# Altium footprint library AMPHENOL THD.PcbLib: 20 footprints (part 2 of 2)
Each footprint in its own frame and in the unit in brackets; x right, y up, seen from the top. Pads: shape width x height; smd on the part's side, far side on the other; paste and mask are expansions set on the pad; w line width, h text height; cw(c..) or ccw(c..) is an arc to the next point about the centre after c.
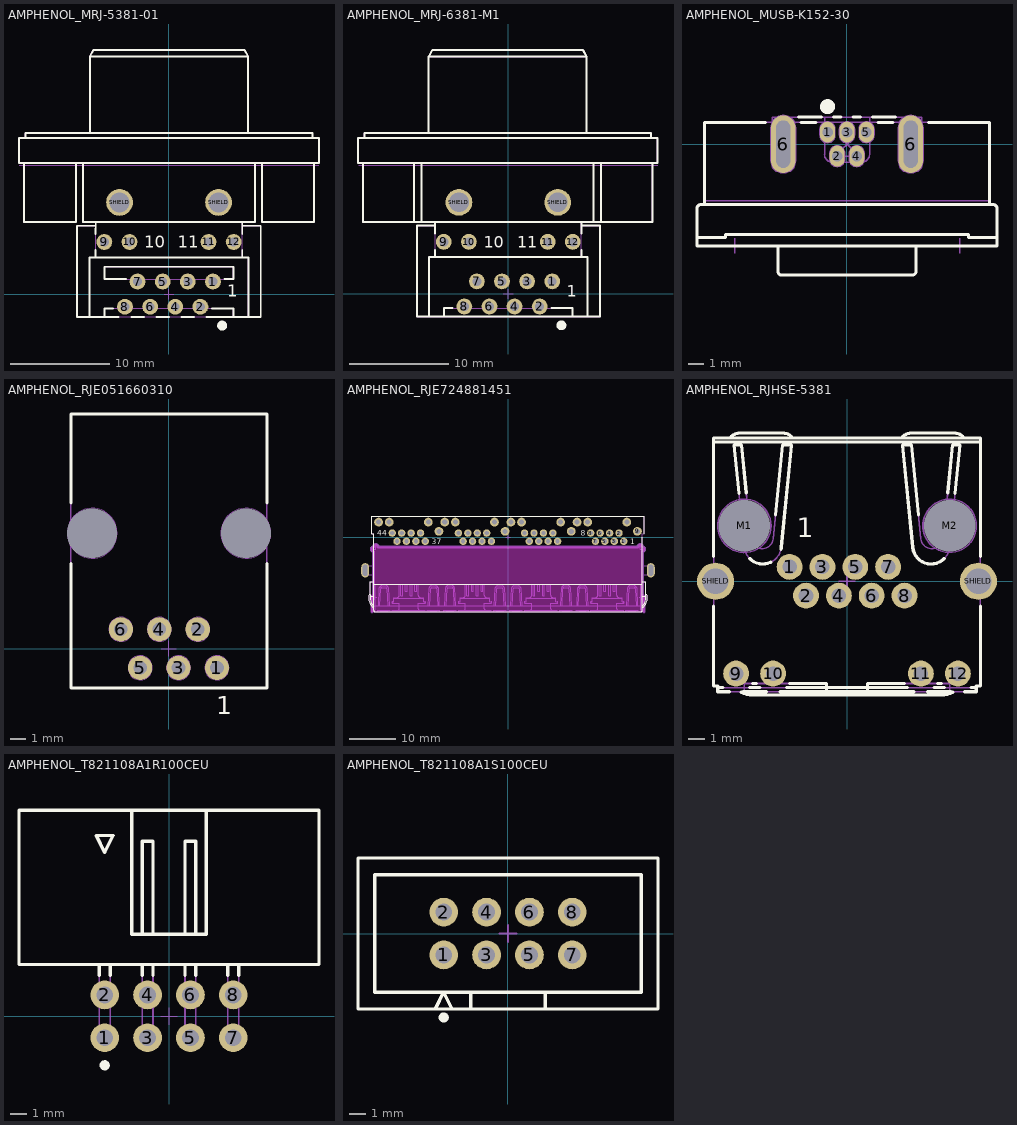
[diagram p1: the footprints below, top view; thin cyan lines are the x and y axes]

## AMPHENOL_MRJ-5381-01 [mm] "1 Port, 8 Positions, Dust Tight Waterproof IP67, Right Angle CAT5 RJ45 Modular Jack With Yellow And Green LEDs, Series MRJ"
height 18.25
pads (14):
  round 1.6 hole 0.9: 1(4.445,1.27) 2(3.175,-1.27) 3(1.905,1.27) 4(0.635,-1.27) 5(-0.635,1.27) 6(-1.905,-1.27) 7(-3.175,1.27) 8(-4.445,-1.27) 9(-6.525,5.27) 10(-3.985,5.27) 11(3.995,5.27) 12(6.535,5.27)
  round 2.7 hole 2: SHIELD(-4.995,9.27) SHIELD(5.005,9.27)
Top Overlay:
  circle w0.5: c5.375,-3.175 r0.25
  lines w0.2: -14.649,13.269 -14.649,7.269 -9.41,7.269 -9.41,13.269 ; -14.499,15.769 -14.499,16.269 14.501,16.269 14.501,15.769 ; -8.699,13.269 -8.699,7.269 8.701,7.269 8.701,13.269 ; -8.019,-2.281 -8.019,3.719 8.021,3.719 8.021,-2.281 ; -7.999,16.269 -7.999,24.019 ; -7.399,3.719 -7.398,4.447 ; -7.399,6.909 -9.269,6.909 -9.269,-2.286 -5.084,-2.286 ; -7.397,6.094 -7.396,7.269 ; -6.499,-2.281 -6.499,-1.431 -5.634,-1.431 ; -4.349,1.519 -6.499,1.519 -6.499,2.769 6.501,2.769 6.501,1.519 5.619,1.519 ; -3.806,-2.286 -2.544,-2.286 ; -1.266,-2.286 -0.004,-2.286 ; 1.274,-2.286 2.536,-2.286 ; 3.814,-2.286 9.271,-2.286 9.271,6.909 7.401,6.909 ; 4.364,-1.431 6.501,-1.431 6.501,-2.281 ; 7.401,3.719 7.401,4.44 ; 7.401,6.1 7.401,7.269 ; 8.001,16.269 8.001,24.019 ; 9.413,13.269 9.413,7.269 14.651,7.269 14.651,13.269 ; -7.999,24.019 -7.623,24.669 7.626,24.669 8.001,24.019 ; -7.999,24.019 8.001,24.019 ; -15.149,13.269 15.151,13.269 15.151,15.769 -15.149,15.769 -15.149,13.269
  text "11" at 0.9,4.675 h1.2
  text "10" at -2.475,4.675 h1.2
  text "1" at 5.9,-0.275 h1.2
Mechanical 8:
  lines w0.1: -15.149,13.02 0.005,13.02 15.155,13.02 ; -7.025,5.27 -6.525,5.27 ; -6.525,4.77 -6.525,5.27 ; -6.525,5.77 -6.525,5.27 ; -6.025,5.27 -6.525,5.27 ; -5.495,9.27 -4.995,9.27 ; -4.995,8.77 -4.995,9.27 ; -4.995,9.77 -4.995,9.27 ; -4.945,-1.27 -4.445,-1.27 ; -4.495,9.27 -4.995,9.27 ; -4.485,5.27 -3.985,5.27 ; -4.445,-1.77 -4.445,-1.27 ; -4.445,-0.77 -4.445,-1.27 ; -3.985,4.77 -3.985,5.27 ; -3.985,5.77 -3.985,5.27 ; -3.945,-1.27 -4.445,-1.27 ; -3.675,1.27 -3.175,1.27 ; -3.485,5.27 -3.985,5.27 ; -3.175,0.77 -3.175,1.27 ; -3.175,1.77 -3.175,1.27 ; -2.675,1.27 -3.175,1.27 ; -2.405,-1.27 -1.905,-1.27 ; -1.905,-1.77 -1.905,-1.27 ; -1.905,-0.77 -1.905,-1.27 ; -1.405,-1.27 -1.905,-1.27 ; -1.135,1.27 -0.635,1.27 ; -0.635,0.77 -0.635,1.27 ; -0.635,1.77 -0.635,1.27 ; -0.5,0 0,0 ; -0.135,1.27 -0.635,1.27 ; 0,-0.5 0,0 ; 0,0.5 0,0 ; 0.135,-1.27 0.635,-1.27 ; 0.5,0 0,0 ; 0.635,-1.77 0.635,-1.27 ; 0.635,-0.77 0.635,-1.27 ; 1.135,-1.27 0.635,-1.27 ; 1.405,1.27 1.905,1.27 ; 1.905,0.77 1.905,1.27 ; 1.905,1.77 1.905,1.27 ; 2.405,1.27 1.905,1.27 ; 2.675,-1.27 3.175,-1.27 ; 3.175,-1.77 3.175,-1.27 ; 3.175,-0.77 3.175,-1.27 ; 3.495,5.27 3.995,5.27 ; 3.675,-1.27 3.175,-1.27 ; 3.945,1.27 4.445,1.27 ; 3.995,4.77 3.995,5.27 ; 3.995,5.77 3.995,5.27 ; 4.445,0.77 4.445,1.27 ; 4.445,1.77 4.445,1.27 ; 4.495,5.27 3.995,5.27 ; 4.505,9.27 5.005,9.27 ; 4.945,1.27 4.445,1.27 ; 5.005,8.77 5.005,9.27 ; 5.005,9.77 5.005,9.27 ; 5.505,9.27 5.005,9.27 ; 6.035,5.27 6.535,5.27 ; 6.535,4.77 6.535,5.27 ; 6.535,5.77 6.535,5.27 ; 7.035,5.27 6.535,5.27
Mechanical 14:
  lines w0.1: -14.649,13.269 -14.649,7.269 -9.41,7.269 -9.41,13.269 ; -14.499,15.769 -14.499,16.269 14.501,16.269 14.501,15.769 ; -8.699,13.269 -8.699,7.269 8.701,7.269 8.701,13.269 ; -8.019,-2.281 -8.019,3.719 8.021,3.719 8.021,-2.281 ; -7.999,16.269 -7.999,24.019 ; -7.399,3.719 -7.396,7.269 ; -7.399,6.909 -9.269,6.909 -9.269,-2.286 9.271,-2.286 9.271,6.909 7.401,6.909 ; -6.499,-2.281 -6.499,-1.431 6.501,-1.431 6.501,-2.281 ; 7.401,3.719 7.401,7.269 ; 8.001,16.269 8.001,24.019 ; 9.413,13.269 9.413,7.269 14.651,7.269 14.651,13.269 ; -7.999,24.019 -7.623,24.669 7.626,24.669 8.001,24.019 ; -7.999,24.019 8.001,24.019 ; -15.149,13.269 15.151,13.269 15.151,15.769 -15.149,15.769 -15.149,13.269 ; -6.499,1.519 -6.499,2.769 6.501,2.769 6.501,1.519 -6.499,1.519
  text "11" at 0.9,4.675 h1.2
  text "10" at -2.475,4.675 h1.2
  text "1" at 5.9,-0.275 h1.2
3D body "AMPHENOL_MRJ-5381-01.stp": height 16.7, standoff -2.54, extent -15.148,-2.285 15.152,24.669

## AMPHENOL_MRJ-6381-M1 [mm] "1 Port, 8 Contacts, Dust Tight Waterproof IP67, Right Angle CAT5 Filtered RJ45 Modular Jack With Yellow And Green LEDs, Series MRJ"
height 18
pads (14):
  round 1.6 hole 0.9: 1(4.445,1.27) 2(3.175,-1.27) 3(1.905,1.27) 4(0.635,-1.27) 5(-0.635,1.27) 6(-1.905,-1.27) 7(-3.175,1.27) 8(-4.445,-1.27) 9(-6.525,5.27) 10(-3.985,5.27) 11(3.995,5.27) 12(6.535,5.27)
  round 2.7 hole 2: SHIELD(-4.995,9.27) SHIELD(5.005,9.27)
Top Overlay:
  circle w0.5: c5.375,-3.175 r0.25
  lines w0.2: -14.71,13.269 -14.71,7.269 14.59,7.269 14.59,13.269 ; -14.56,15.769 -14.56,16.269 14.44,16.269 14.44,15.769 ; -9.519,7.269 -9.519,13.269 ; -8.76,7.269 -8.76,13.269 ; -8.06,16.269 -8.06,24.019 ; -8.019,-2.286 -8.019,3.719 8.021,3.719 8.021,-2.286 ; -7.399,3.719 -7.399,4.447 ; -7.399,6.093 -7.399,7.269 ; -7.399,6.909 -9.253,6.909 -9.253,-2.286 9.287,-2.286 9.287,6.909 7.401,6.909 ; -6.499,-2.281 -6.499,-1.431 -5.634,-1.431 ; 4.364,-1.431 6.501,-1.431 6.501,-2.281 ; 7.401,3.719 7.401,4.44 ; 7.401,6.1 7.401,7.269 ; 7.94,16.269 7.94,24.019 ; 8.64,7.269 8.64,13.269 ; 9.398,7.269 9.398,13.269 ; -8.06,24.019 7.94,24.019 ; -8.06,24.019 -7.685,24.669 7.564,24.669 7.94,24.019 ; -15.21,13.269 -15.21,15.769 15.09,15.769 15.09,13.269 -15.21,13.269
  text "11" at 0.9,4.675 h1.2
  text "10" at -2.475,4.675 h1.2
  text "1" at 5.9,-0.275 h1.2
Mechanical 8:
  lines w0.1: -15.149,13.02 0.005,13.02 15.155,13.02 ; -7.025,5.27 -6.525,5.27 ; -6.525,4.77 -6.525,5.27 ; -6.525,5.77 -6.525,5.27 ; -6.025,5.27 -6.525,5.27 ; -5.5,9.27 -5,9.27 ; -5,8.77 -5,9.27 ; -5,9.77 -5,9.27 ; -4.945,-1.27 -4.445,-1.27 ; -4.5,9.27 -5,9.27 ; -4.485,5.27 -3.985,5.27 ; -4.445,-1.77 -4.445,-1.27 ; -4.445,-0.77 -4.445,-1.27 ; -3.985,4.77 -3.985,5.27 ; -3.985,5.77 -3.985,5.27 ; -3.945,-1.27 -4.445,-1.27 ; -3.675,1.27 -3.175,1.27 ; -3.485,5.27 -3.985,5.27 ; -3.175,0.77 -3.175,1.27 ; -3.175,1.77 -3.175,1.27 ; -2.675,1.27 -3.175,1.27 ; -2.405,-1.27 -1.905,-1.27 ; -1.905,-1.77 -1.905,-1.27 ; -1.905,-0.77 -1.905,-1.27 ; -1.405,-1.27 -1.905,-1.27 ; -1.135,1.27 -0.635,1.27 ; -0.635,0.77 -0.635,1.27 ; -0.635,1.77 -0.635,1.27 ; -0.5,0 0,0 ; -0.135,1.27 -0.635,1.27 ; 0,-0.5 0,0 ; 0,0.5 0,0 ; 0.135,-1.27 0.635,-1.27 ; 0.5,0 0,0 ; 0.635,-1.77 0.635,-1.27 ; 0.635,-0.77 0.635,-1.27 ; 1.135,-1.27 0.635,-1.27 ; 1.405,1.27 1.905,1.27 ; 1.905,0.77 1.905,1.27 ; 1.905,1.77 1.905,1.27 ; 2.405,1.27 1.905,1.27 ; 2.675,-1.27 3.175,-1.27 ; 3.175,-1.77 3.175,-1.27 ; 3.175,-0.77 3.175,-1.27 ; 3.495,5.27 3.995,5.27 ; 3.675,-1.27 3.175,-1.27 ; 3.945,1.27 4.445,1.27 ; 3.995,4.77 3.995,5.27 ; 3.995,5.77 3.995,5.27 ; 4.44,9.27 5,9.27 ; 4.445,0.77 4.445,1.27 ; 4.445,1.77 4.445,1.27 ; 4.495,5.27 3.995,5.27 ; 4.5,9.27 5,9.27 ; 4.945,1.27 4.445,1.27 ; 5,8.77 5,9.27 ; 5,9.77 5,9.27 ; 5.5,9.27 5,9.27 ; 6.035,5.27 6.535,5.27 ; 6.535,4.77 6.535,5.27 ; 6.535,5.77 6.535,5.27 ; 7.035,5.27 6.535,5.27
Mechanical 14:
  lines w0.1: -14.71,13.269 -14.71,7.269 14.59,7.269 14.59,13.269 ; -14.56,15.769 -14.56,16.269 14.44,16.269 14.44,15.769 ; -9.519,7.269 -9.519,13.269 ; -8.76,7.269 -8.76,13.269 ; -8.06,16.269 -8.06,24.019 ; -8.019,-2.286 -8.019,3.719 8.021,3.719 8.021,-2.286 ; -7.399,3.719 -7.399,7.269 ; -7.399,6.909 -9.253,6.909 -9.253,-2.286 9.287,-2.286 9.287,6.909 7.401,6.909 ; -6.499,-2.281 -6.499,-1.431 6.501,-1.431 6.501,-2.281 ; 7.401,3.719 7.401,7.269 ; 7.94,16.269 7.94,24.019 ; 8.64,7.269 8.64,13.269 ; 9.398,7.269 9.398,13.269 ; -8.06,24.019 7.94,24.019 ; -8.06,24.019 -7.685,24.669 7.564,24.669 7.94,24.019 ; -15.21,13.269 -15.21,15.769 15.09,15.769 15.09,13.269 -15.21,13.269
  text "11" at 0.9,4.675 h1.2
  text "10" at -2.475,4.675 h1.2
  text "1" at 5.9,-0.275 h1.2
3D body "AMPHENOL_MRJ-6381-M1.stp": height 17.06, standoff -2.54, extent -15.21,-2.285 15.09,24.669

## AMPHENOL_MUSB-K152-30 [mm] "1 Port, 8 Positions, Dust Tight Waterproof IP67, Right Angle CAT5 RJ45 Modular Jack With Yellow And Green LEDs, Series MRJ"
height 8.5
pads (7):
  oval 1x1.4 hole 0.7: 1(-1.3,0.8) 2(-0.65,-0.8) 3(0,0.8) 4(0.65,-0.8) 5(1.3,0.8)
  oval 1.65x3.85 hole 0.95 slot 3.15 at 90 deg: 6(-4.25,0) 6(4.25,0)
Top Overlay:
  circle w0.5: c-1.3,2.5 r0.25
  lines w0.2: -10,-6.23 -8.1,-6.23 -8.1,-6.03 8.1,-6.03 8.1,-6.23 10,-6.23 ; -9.499,-4.03 -9.499,1.45 -5.424,1.45 ; -4.6,-6.79 -4.6,-8.48 ccw(c-4.35,-8.48) -4.35,-8.73 4.35,-8.73 ccw(c4.35,-8.48) 4.6,-8.48 4.6,-6.79 ; -3.245,1.8 -1.712,1.8 ; -3.076,1.45 -2.079,1.45 ; -0.888,1.8 -0.412,1.8 ; 0.412,1.8 0.888,1.8 ; 1.712,1.8 3.245,1.8 ; 2.079,1.45 3.076,1.45 ; 5.424,1.45 9.5,1.45 9.499,-4.03 ; -10,-6.79 -10,-4.28 cw(c-9.75,-4.28) -9.75,-4.03 9.75,-4.03 cw(c9.75,-4.28) 10,-4.28 10,-6.79 -10,-6.79
Mechanical 8:
  circle w0.1: c-1.3,0.8 r0.35
  circle w0.1: c0,0.8 r0.35
  circle w0.1: c1.3,0.8 r0.35
  circle w0.1: c-0.65,-0.8 r0.35
  circle w0.1: c0.65,-0.8 r0.35
  lines w0.1: -9.499,-3.78 0,-3.78 9.5,-3.781 ; -7.5,-7.29 -7.5,-6.79 -7.5,-6.29 ; -4.75,-1.1 -4.25,-1.1 ; -4.75,0 -4.25,0 ; -4.75,1.1 -4.25,1.1 ; -4.25,-1.575 -4.25,1.575 ; -4.25,-0.6 -4.25,-1.1 ; -4.25,-0.5 -4.25,0 ; -4.25,0.5 -4.25,0 ; -4.25,0.6 -4.25,1.1 ; -3.75,-1.1 -4.25,-1.1 ; -3.75,0 -4.25,0 ; -3.75,1.1 -4.25,1.1 ; -1.8,0.8 -1.3,0.8 ; -1.3,0.3 -1.3,0.8 ; -1.3,1.3 -1.3,0.8 ; -1.15,-0.8 -0.65,-0.8 ; -0.8,0.8 -1.3,0.8 ; -0.65,-1.3 -0.65,-0.8 ; -0.65,-0.3 -0.65,-0.8 ; -0.5,0.8 0,0.8 ; -0.354,-0.354 0,0 ; -0.354,0.354 0,0 ; -0.15,-0.8 -0.65,-0.8 ; 0,0.3 0,0.8 ; 0,1.3 0,0.8 ; 0.15,-0.8 0.65,-0.8 ; 0.354,-0.354 0,0 ; 0.354,0.354 0,0 ; 0.5,0.8 0,0.8 ; 0.65,-1.3 0.65,-0.8 ; 0.65,-0.3 0.65,-0.8 ; 0.8,0.8 1.3,0.8 ; 1.15,-0.8 0.65,-0.8 ; 1.3,0.3 1.3,0.8 ; 1.3,1.3 1.3,0.8 ; 1.8,0.8 1.3,0.8 ; 3.75,-1.1 4.25,-1.1 ; 3.75,0 4.25,0 ; 3.75,1.1 4.25,1.1 ; 4.25,-1.575 4.25,1.575 ; 4.25,-0.6 4.25,-1.1 ; 4.25,-0.5 4.25,0 ; 4.25,0.5 4.25,0 ; 4.25,0.6 4.25,1.1 ; 4.75,-1.1 4.25,-1.1 ; 4.75,0 4.25,0 ; 4.75,1.1 4.25,1.1 ; 7.5,-7.29 7.5,-6.79 7.5,-6.29 ; -0.65,-0.8 0.65,-0.8 ; -5.075,-1.1 ccw(c-4.25,-1.1) -3.425,-1.1 -3.425,1.1 ccw(c-4.25,1.1) -5.075,1.1 -5.075,-1.1 ; -4.725,-1.1 ccw(c-4.25,-1.1) -3.775,-1.1 -3.775,1.1 ccw(c-4.25,1.1) -4.725,1.1 -4.725,-1.1 ; -1.8,0.6 ccw(c-1.3,0.6) -0.8,0.6 -0.8,1 ccw(c-1.3,1) -1.8,1 -1.8,0.6 ; -1.15,-1 ccw(c-0.65,-1) -0.15,-1 -0.15,-0.6 ccw(c-0.65,-0.6) -1.15,-0.6 -1.15,-1 ; -0.5,0.6 ccw(c0,0.6) 0.5,0.6 0.5,1 ccw(c0,1) -0.5,1 -0.5,0.6 ; 0.15,-1 ccw(c0.65,-1) 1.15,-1 1.15,-0.6 ccw(c0.65,-0.6) 0.15,-0.6 0.15,-1 ; 0.8,0.6 ccw(c1.3,0.6) 1.8,0.6 1.8,1 ccw(c1.3,1) 0.8,1 0.8,0.6 ; 3.425,-1.1 ccw(c4.25,-1.1) 5.075,-1.1 5.075,1.1 ccw(c4.25,1.1) 3.425,1.1 3.425,-1.1 ; 3.775,-1.1 ccw(c4.25,-1.1) 4.725,-1.1 4.725,1.1 ccw(c4.25,1.1) 3.775,1.1 3.775,-1.1
Mechanical 14:
  lines w0.1: -10,-6.23 -8.1,-6.23 -8.1,-6.03 8.1,-6.03 8.1,-6.23 10,-6.23 ; -9.499,-4.03 -9.499,1.45 9.5,1.45 9.499,-4.03 ; -4.975,1.45 -4.975,1.8 4.975,1.8 4.975,1.45 ; -4.6,-6.79 -4.6,-8.48 ccw(c-4.35,-8.48) -4.35,-8.73 4.35,-8.73 ccw(c4.35,-8.48) 4.6,-8.48 4.6,-6.79 ; -1.5,1.8 -1.5,-0.7 ccw(c-1,-0.7) -1,-1.2 1,-1.2 ccw(c1,-0.7) 1.5,-0.7 1.5,1.8 ; -10,-6.79 -10,-4.28 cw(c-9.75,-4.28) -9.75,-4.03 9.75,-4.03 cw(c9.75,-4.28) 10,-4.28 10,-6.79 -10,-6.79
3D body "AMPHENOL_MUSB-K152-30.stp": height 8.5, standoff -2.75, extent -10,-8.73 10,1.8

## AMPHENOL_RJE051660310 [mm] "1 Port RJ12 Connector, 6P6C,  Right Angle With Ears"
height 11.5
pads (8):
  round 1.6 hole 0.9: 1(3.175,-1.27) 2(1.905,1.27) 3(0.635,-1.27) 4(-0.635,1.27) 5(-1.905,-1.27) 6(-3.175,1.27)
  round 0.5 hole 3.3 unplated mask+1.4: M1(-5.075,7.62) M2(5.085,7.62)
Top Overlay:
  lines w0.2: -6.48,5.62 -6.48,-2.6 6.48,-2.6 6.48,5.62 ; -6.48,9.62 -6.48,15.5 6.48,15.5 6.48,9.62
  text "1" at 3.12,-4.325 h1.2
Mechanical 8:
  circle w0.05: c5.085,7.62 r1.65
  circle w0.05: c-5.075,7.62 r1.65
  circle w0.05: c-3.175,1.27 r0.45
  circle w0.05: c-3.175,1.27 r0.8
  circle w0.05: c-0.635,1.27 r0.45
  circle w0.05: c-0.635,1.27 r0.8
  circle w0.05: c1.905,1.27 r0.45
  circle w0.05: c1.905,1.27 r0.8
  circle w0.05: c-1.905,-1.27 r0.45
  circle w0.05: c-1.905,-1.27 r0.8
  circle w0.05: c0.635,-1.27 r0.45
  circle w0.05: c0.635,-1.27 r0.8
  circle w0.05: c3.175,-1.27 r0.45
  circle w0.05: c3.175,-1.27 r0.8
  lines w0.05: -5.575,7.62 -5.075,7.62 ; -5.075,7.12 -5.075,7.62 ; -5.075,8.12 -5.075,7.62 ; -4.575,7.62 -5.075,7.62 ; -3.675,1.27 -3.175,1.27 ; -3.175,0.77 -3.175,1.27 ; -3.175,1.77 -3.175,1.27 ; -2.675,1.27 -3.175,1.27 ; -2.405,-1.27 -1.905,-1.27 ; -1.905,-1.77 -1.905,-1.27 ; -1.905,-0.77 -1.905,-1.27 ; -1.405,-1.27 -1.905,-1.27 ; -1.135,1.27 -0.635,1.27 ; -0.635,0.77 -0.635,1.27 ; -0.635,1.77 -0.635,1.27 ; -0.5,0 0,0 ; -0.135,1.27 -0.635,1.27 ; 0,-0.5 0,0 ; 0,0.5 0,0 ; 0.135,-1.27 0.635,-1.27 ; 0.5,0 0,0 ; 0.635,-1.77 0.635,-1.27 ; 0.635,-0.77 0.635,-1.27 ; 1.135,-1.27 0.635,-1.27 ; 1.405,1.27 1.905,1.27 ; 1.905,0.77 1.905,1.27 ; 1.905,1.77 1.905,1.27 ; 2.405,1.27 1.905,1.27 ; 2.675,-1.27 3.175,-1.27 ; 3.175,-1.77 3.175,-1.27 ; 3.175,-0.77 3.175,-1.27 ; 3.675,-1.27 3.175,-1.27 ; 4.585,7.62 5.085,7.62 ; 5.085,7.12 5.085,7.62 ; 5.085,8.12 5.085,7.62 ; 5.585,7.62 5.085,7.62
Mechanical 14:
  lines w0.1: -6.48,-2.6 6.48,-2.6 6.48,15.5 -6.48,15.5 -6.48,-2.6
  text "1" at 3.12,-4.325 h1.2
3D body "AMPHENOL_RJE051660310.stp": height 11.5, standoff -3.2, extent -6.48,-2.6 6.48,15.5

## AMPHENOL_RJE724881451 [mm] "4 Port, 8 Positions, With Shield And Green Leds"
height 12.92
pads (50):
  round 1.6 hole 0.9: 1(25.02,-0.89) 2(24,0.89) 3(22.98,-0.89) 4(21.96,0.89) 5(20.94,-0.89) 6(19.92,0.89) 7(18.9,-0.89) 8(17.88,0.89) 13(10.72,-0.89) 14(9.7,0.89) 15(8.68,-0.89) 16(7.66,0.89) 17(6.64,-0.89) 18(5.62,0.89) 19(4.6,-0.89) 20(3.58,0.89) 25(-3.58,-0.89) 26(-4.6,0.89) 27(-5.62,-0.89) 28(-6.64,0.89) 29(-7.66,-0.89) 30(-8.68,0.89) 31(-9.7,-0.89) 32(-10.72,0.89) 37(-17.88,-0.89) 38(-18.9,0.89) 39(-19.92,-0.89) 40(-20.94,0.89) 41(-21.96,-0.89) 42(-22.98,0.89) 43(-24,-0.89) 44(-25.02,0.89)
  round 1.9 hole 1.1: 9(27.97,1.26) 10(25.68,3.26) 11(17.22,3.26) 12(14.93,3.26) 21(13.67,1.26) 22(11.38,3.26) 23(2.92,3.26) 24(0.63,3.26) 33(-0.63,1.26) 34(-2.92,3.26) 35(-11.38,3.26) 36(-13.67,3.26) 45(-14.93,1.26) 46(-17.22,3.26) 47(-25.68,3.26) 48(-27.97,3.26)
  oval 1.7x3.1 hole 1 slot 2.4 at 90 deg: SHIELD(-30.87,-7.16) SHIELD(30.87,-7.16)
Top Overlay:
  lines w0.2: -29.8,-12.383 -29.8,-9.592 -29.05,-9.592 ; -29.795,-12.792 -29.05,-12.792 ; -29.05,-15.299 cw(c-27.25,-13.078) -30.008,-12.325 -29.719,-12.406 ccw(c-27.264,-13.067) -29.05,-14.876 ; -29.05,-10.142 29.05,-10.142 ; 19.71,-10.162 19.72,-10.162 ; 20.12,-10.162 20.13,-10.162 ; 21.75,-10.162 21.76,-10.162 ; 22.16,-10.162 22.17,-10.162 ; 29.05,-15.299 ccw(c27.25,-13.078) 30.008,-12.325 29.719,-12.406 cw(c27.264,-13.067) 29.05,-14.876 29.079,-14.847 ; 29.05,-12.792 29.795,-12.792 ; 29.05,-9.592 29.8,-9.592 29.8,-12.383 ; 29.05,0 29.05,-15.842 cw(c28.704,-15.792) 28.704,-16.142 -28.7,-16.142 cw(c-28.7,-15.792) -29.05,-15.792 -29.05,0.737 -29.4,0.737 -29.4,4.558 29.4,4.558 29.4,0.737
  text "37" at -16.495,-1.525 h1.2
  text "44" at -28.25,0.3 h1.2
  text "8" at 15.755,0.325 h1.2
  text "1" at 26.405,-1.525 h1.2
Keep-Out Layer:
  board cut-out: -29.4,-16.15 -29.4,-13 -29.4,-12.92 -29.35,-12.769 -29.256,-12.64 -29.126,-12.547 -29.05,-12.523 -29.05,-3.09 -29.149,-3.09 -29.333,-3.014 -29.474,-2.873 -29.55,-2.689 -29.55,-2.59 -29.55,-2.491 -29.474,-2.307 -29.333,-2.166 -29.149,-2.09 -29.05,-2.09 -29.05,-1.991 -28.974,-1.807 -28.833,-1.666 -28.649,-1.59 -28.55,-1.59 -28.451,-1.59 -28.267,-1.666 -28.126,-1.807 -28.05,-1.991 -28.05,-2.09 28.05,-2.09 28.05,-1.991 28.126,-1.807 28.267,-1.666 28.451,-1.59 28.55,-1.59 28.649,-1.59 28.833,-1.666 28.974,-1.807 29.05,-1.991 29.05,-2.09 29.149,-2.09 29.333,-2.166 29.474,-2.307 29.55,-2.491 29.55,-2.59 29.55,-2.689 29.474,-2.873 29.333,-3.014 29.149,-3.09 29.05,-3.09 29.05,-12.523 29.126,-12.547 29.256,-12.64 29.35,-12.769 29.4,-12.92 29.4,-13 29.4,-16.15
Keep-Out Layer:
  lines w0.2: -29.4,-16.15 -29.4,-13 cw(c-28.9,-13) -29.05,-12.523 -29.05,-3.09 cw(c-29.05,-2.59) -29.55,-2.59 cw(c-29.05,-2.59) -29.05,-2.09 cw(c-28.55,-2.09) -28.55,-1.59 cw(c-28.55,-2.09) -28.05,-2.09 28.05,-2.09 cw(c28.55,-2.09) 28.55,-1.59 cw(c28.55,-2.09) 29.05,-2.09 cw(c29.05,-2.59) 29.55,-2.59 cw(c29.05,-2.59) 29.05,-3.09 29.05,-12.523 cw(c28.9,-13) 29.4,-13 29.4,-16.15
Mechanical 1:
  lines w0.635: -29.4,-16.15 -29.4,-13 cw(c-28.9,-13) -29.05,-12.523 -29.05,-3.09 cw(c-29.05,-2.59) -29.55,-2.59 cw(c-29.05,-2.59) -29.05,-2.09 cw(c-28.55,-2.09) -28.55,-1.59 cw(c-28.55,-2.09) -28.05,-2.09 28.05,-2.09 cw(c28.55,-2.09) 28.55,-1.59 cw(c28.55,-2.09) 29.05,-2.09 cw(c29.05,-2.59) 29.55,-2.59 cw(c29.05,-2.59) 29.05,-3.09 29.05,-12.523 cw(c28.9,-13) 29.4,-13 29.4,-16.15
Mechanical 8:
  drawing of 201 lines, arcs and shapes, not listed
Mechanical 14:
  drawing of 343 lines, arcs and shapes, not listed
  text "37" at -16.495,-1.525 h1.2
  text "44" at -28.25,0.3 h1.2
  text "8" at 15.755,0.325 h1.2
  text "1" at 26.405,-1.525 h1.2
Drill Drawing:
  lines w0.1: -29.4,-15.675 -29.4,-13.675 ; -29.05,-8.25 -29.05,-6.25 ; -28.627,-3.496 -29.05,-2.59 ; -28.477,-12.094 -28.9,-13 ; -28.46,-15.017 -29.4,-14.675 ; -28.46,-14.333 -29.4,-14.675 ; -28.144,-3.013 -29.05,-2.59 ; -28.127,-2.996 -28.55,-2.09 ; -28.11,-7.592 -29.05,-7.25 ; -28.11,-6.908 -29.05,-7.25 ; -27.994,-12.577 -28.9,-13 ; -27.644,-2.513 -28.55,-2.09 ; -25.626,-3.541 -27.099,-3.541 ; -25.476,-12.049 -26.949,-12.049 -27.949,-12.049 -28.9,-13 ; -1.925,-14.675 -29.4,-14.675 ; -1.875,-7.25 -29.05,-7.25 ; 2.275,-14.675 29.05,-14.675 ; 2.325,-7.25 29.05,-7.25 ; 25.476,-12.049 26.949,-12.049 27.949,-12.049 28.9,-13 ; 25.626,-3.541 27.099,-3.541 ; 27.644,-2.513 28.55,-2.09 ; 27.994,-12.577 28.9,-13 ; 28.11,-14.992 29.05,-14.65 28.11,-14.308 ; 28.11,-7.592 29.05,-7.25 ; 28.11,-6.908 29.05,-7.25 ; 28.127,-2.996 28.55,-2.09 ; 28.144,-3.013 29.05,-2.59 ; 28.477,-12.094 28.9,-13 ; 28.627,-3.496 29.05,-2.59 ; 29.05,-15.65 29.05,-13.65 ; 29.05,-8.25 29.05,-6.25 ; -29.05,-2.59 -28.099,-3.541 -27.099,-3.541 ; -28.55,-2.09 -27.099,-3.541 ; 27.099,-3.541 28.55,-2.09 ; 27.099,-3.541 28.099,-3.541 29.05,-2.59
  text "+" at 2.003,-13.558 h1
  text "-0.1" at 2.003,-14.355 h1
  text "58.8" at -1.14,-15.058 h1
  text "58.1" at -0.89,-7.633 h1
  text "-0.1" at 2.253,-6.93 h1
  text "+" at 2.253,-6.133 h1
  text "2xR0.5" at 23.825,-5.125 h1
  text "2xR0.5" at -27.925,-5.1 h1
  text "R0.5" at 24.1,-11.35 h1
  text "R0.5" at -27.05,-11.475 h1
3D body "AMPHENOL_RJE724881451.stp": height 9.56, standoff -3.4, extent -31.02,-16.142 31.02,4.558

## AMPHENOL_RJHSE-5381 [mm] "1 Port, 8 Positions, CAT5 RJ45 Modular Connector With Yellow And Green LEDs"
height 13.46
pads (16):
  round 1.6 hole 0.9: 1(-3.554,0.886) 2(-2.538,-0.894) 3(-1.522,0.886) 4(-0.506,-0.894) 5(0.51,0.886) 6(1.526,-0.894) 7(2.542,0.886) 8(3.558,-0.894) 9(-6.862,-5.714) 10(-4.572,-5.714) 11(4.568,-5.714) 12(6.858,-5.714)
  round 1 hole 3.2 unplated mask+1.1: M1(-6.352,3.426) M2(6.348,3.426)
  round 2.3 hole 1.6: SHIELD(-8.132,-0.004) SHIELD(8.128,-0.004)
Top Overlay:
  lines w0.2: -8.257,-1.549 -8.257,-6.478 -8.003,-6.478 -8.003,-6.834 -7.293,-6.834 ; -8.257,1.541 -8.257,8.863 8.253,8.863 8.253,1.541 ; -8.257,8.609 8.253,8.609 ; -8.003,-6.58 -7.693,-6.58 ; -7.242,8.863 cw(c-6.621,8.379) -6.621,9.166 -3.979,9.166 cw(c-3.979,8.379) -3.358,8.863 ; -6.688,5.449 -6.987,8.432 -6.53,8.432 -6.233,5.473 ; -6.54,-6.87 ccw(c-5.844,-5.507) -5.844,-7.037 5.84,-7.037 ccw(c5.84,-5.507) 6.536,-6.87 ; -6.431,-6.834 -5.003,-6.834 ; -6.031,-6.58 -5.403,-6.58 ; -6.022,1.403 ccw(c-5.209,2.214) -4.719,1.176 ; -5.83,-6.326 -5.604,-6.326 ; -4.422,4.118 -3.99,8.432 -3.431,8.432 -4.066,2.1 cw(c-5.209,2.214) -4.089,1.961 ; -4.141,-6.834 4.137,-6.834 ; -3.741,-6.58 3.737,-6.58 ; -3.54,-6.326 -1.272,-6.326 -1.272,-6.834 ; 1.268,-6.834 1.268,-6.326 3.536,-6.326 ; 3.366,8.863 cw(c3.986,8.379) 3.986,9.166 6.628,9.166 cw(c6.628,8.379) 7.249,8.863 ; 4.418,4.118 3.986,8.432 3.427,8.432 4.062,2.1 ccw(c5.205,2.214) 6.018,1.403 ; 4.999,-6.834 6.427,-6.834 ; 5.399,-6.58 6.027,-6.58 ; 5.6,-6.326 5.826,-6.326 ; 6.229,5.473 6.526,8.432 6.983,8.432 6.684,5.449 ; 7.289,-6.834 7.999,-6.834 7.999,-6.478 8.253,-6.478 8.253,-1.549 ; 7.689,-6.58 7.999,-6.58
  text "1" at -3.12,2.725 h1.2
Mechanical 8:
  circle w0.1: c2.542,0.886 r0.45
  circle w0.1: c0.51,0.886 r0.45
  circle w0.1: c-1.522,0.886 r0.45
  circle w0.1: c-3.554,0.886 r0.45
  circle w0.1: c-2.538,-0.894 r0.45
  circle w0.1: c-0.506,-0.894 r0.45
  circle w0.1: c1.526,-0.894 r0.45
  circle w0.1: c3.558,-0.894 r0.45
  circle w0.1: c-8.132,-0.004 r0.8
  circle w0.1: c8.128,-0.004 r0.8
  circle w0.1: c-6.352,3.426 r1.65
  circle w0.1: c6.348,3.426 r1.65
  lines w0.1: -8.632,-0.004 -8.132,-0.004 ; -8.132,-0.504 -8.132,-0.004 ; -8.132,0.496 -8.132,-0.004 ; -7.632,-0.004 -8.132,-0.004 ; -7.362,-5.714 -6.862,-5.714 ; -6.862,-6.214 -6.862,-5.714 ; -6.862,-5.214 -6.862,-5.714 ; -6.852,3.426 -6.352,3.426 ; -6.362,-5.714 -6.862,-5.714 ; -6.352,2.926 -6.352,3.426 ; -6.352,3.926 -6.352,3.426 ; -5.852,3.426 -6.352,3.426 ; -5.072,-5.714 -4.572,-5.714 ; -4.572,-6.214 -4.572,-5.714 ; -4.572,-5.214 -4.572,-5.714 ; -4.072,-5.714 -4.572,-5.714 ; -4.054,0.886 -3.554,0.886 ; -3.554,0.386 -3.554,0.886 ; -3.554,1.386 -3.554,0.886 ; -3.054,0.886 -3.554,0.886 ; -3.038,-0.894 -2.538,-0.894 ; -2.538,-1.394 -2.538,-0.894 ; -2.538,-0.394 -2.538,-0.894 ; -2.038,-0.894 -2.538,-0.894 ; -2.022,0.886 -1.522,0.886 ; -1.522,0.386 -1.522,0.886 ; -1.522,1.386 -1.522,0.886 ; -1.022,0.886 -1.522,0.886 ; -1.006,-0.894 -0.506,-0.894 ; -0.506,-1.394 -0.506,-0.894 ; -0.506,-0.394 -0.506,-0.894 ; -0.5,0 0,0 ; -0.006,-0.894 -0.506,-0.894 ; 0,-0.5 0,0 ; 0,0.5 0,0 ; 0.01,0.886 0.51,0.886 ; 0.5,0 0,0 ; 0.51,0.386 0.51,0.886 ; 0.51,1.386 0.51,0.886 ; 1.01,0.886 0.51,0.886 ; 1.026,-0.894 1.526,-0.894 ; 1.526,-1.394 1.526,-0.894 ; 1.526,-0.394 1.526,-0.894 ; 2.026,-0.894 1.526,-0.894 ; 2.042,0.886 2.542,0.886 ; 2.542,0.386 2.542,0.886 ; 2.542,1.386 2.542,0.886 ; 3.042,0.886 2.542,0.886 ; 3.058,-0.894 3.558,-0.894 ; 3.558,-1.394 3.558,-0.894 ; 3.558,-0.394 3.558,-0.894 ; 4.058,-0.894 3.558,-0.894 ; 4.068,-5.714 4.568,-5.714 ; 4.568,-6.214 4.568,-5.714 ; 4.568,-5.214 4.568,-5.714 ; 5.068,-5.714 4.568,-5.714 ; 5.848,3.426 6.348,3.426 ; 6.348,2.926 6.348,3.426 ; 6.348,3.926 6.348,3.426 ; 6.358,-5.714 6.858,-5.714 ; 6.848,3.426 6.348,3.426 ; 6.858,-6.214 6.858,-5.714 ; 6.858,-5.214 6.858,-5.714 ; 7.358,-5.714 6.858,-5.714 ; 7.628,-0.004 8.128,-0.004 ; 8.128,-0.504 8.128,-0.004 ; 8.128,0.496 8.128,-0.004 ; 8.628,-0.004 8.128,-0.004
Mechanical 14:
  lines w0.1: -8.257,-0.408 cw(c-7.884,-0.027) -8.257,0.354 ; -8.257,8.609 8.253,8.609 ; -8.003,-6.58 7.999,-6.58 ; -7.242,8.863 cw(c-6.621,8.379) -6.621,9.166 -3.979,9.166 cw(c-3.979,8.379) -3.358,8.863 ; -6.606,-6.834 ccw(c-5.844,-5.507) -5.844,-7.037 5.84,-7.037 ccw(c5.84,-5.507) 6.602,-6.834 ; -6.352,-6.834 -6.352,-6.326 -1.272,-6.326 -1.272,-6.834 ; 1.268,-6.834 1.268,-6.326 6.348,-6.326 6.348,-6.834 ; 3.366,8.863 cw(c3.986,8.379) 3.986,9.166 6.628,9.166 cw(c6.628,8.379) 7.249,8.863 ; 8.253,-0.408 ccw(c7.88,-0.027) 8.253,0.354 ; -8.257,-6.478 -8.257,8.863 8.253,8.863 8.253,-6.478 7.999,-6.478 7.999,-6.834 -8.003,-6.834 -8.003,-6.478 -8.257,-6.478 ; -6.987,8.432 -6.53,8.432 -5.948,2.63 ccw(c-5.26,2.697) -4.572,2.63 -3.99,8.432 -3.431,8.432 -4.066,2.1 cw(c-5.209,2.214) -6.352,2.1 -6.987,8.432 ; 3.427,8.432 3.986,8.432 4.568,2.63 ccw(c5.256,2.697) 5.944,2.63 6.526,8.432 6.983,8.432 6.348,2.1 cw(c5.205,2.214) 4.062,2.1 3.427,8.432
  text "1" at -3.12,2.725 h1.2
3D body "AMPHENOL_RJHSE-5381.stp": height 15.14, standoff -3.7, extent -8.417,-7.037 8.413,9.166

## AMPHENOL_T821108A1R100CEU [mm] "8 Contacts - Right Angled .100\" x .100\" Low Profile Four-Wall Header"
height 9.15
pads (8):
  round 1.7 hole 1: 1(-3.81,-1.27) 2(-3.81,1.27) 3(-1.27,-1.27) 4(-1.27,1.27) 5(1.27,-1.27) 6(1.27,1.27) 7(3.81,-1.27) 8(3.81,1.27)
Top Overlay:
  circle w0.3: c-3.81,-2.9 r0.15
  lines w0.2: -4.13,2.427 -4.13,3.07 ; -3.49,2.427 -3.49,3.07 ; -2.2,12.22 -2.2,4.87 2.2,4.87 2.2,12.22 ; -1.59,2.427 -1.59,3.07 ; -1.59,4.87 -1.59,10.37 -0.95,10.37 -0.95,4.87 ; -0.95,2.427 -0.95,3.07 ; 0.95,2.427 0.95,3.07 ; 0.95,4.87 0.95,10.37 1.59,10.37 1.59,4.87 ; 1.59,2.427 1.59,3.07 ; 3.49,2.427 3.49,3.07 ; 4.13,2.427 4.13,3.07 ; -8.89,3.07 8.89,3.07 8.89,12.22 -8.89,12.22 -8.89,3.07 ; -4.31,10.72 -3.31,10.72 -3.81,9.72 -4.31,10.72
Mechanical 8:
  lines w0.05: -4.31,-1.27 -3.81,-1.27 ; -4.31,1.27 -3.81,1.27 ; -3.81,-1.77 -3.81,-1.27 ; -3.81,-0.77 -3.81,-1.27 ; -3.81,0.77 -3.81,1.27 ; -3.81,1.77 -3.81,1.27 ; -3.31,-1.27 -3.81,-1.27 ; -3.31,1.27 -3.81,1.27 ; -1.77,-1.27 -1.27,-1.27 ; -1.77,1.27 -1.27,1.27 ; -1.27,-1.77 -1.27,-1.27 ; -1.27,-0.77 -1.27,-1.27 ; -1.27,0.77 -1.27,1.27 ; -1.27,1.77 -1.27,1.27 ; -0.77,-1.27 -1.27,-1.27 ; -0.77,1.27 -1.27,1.27 ; -0.5,0 0,0 ; 0,-0.5 0,0 ; 0,0.5 0,0 ; 0.5,0 0,0 ; 0.77,-1.27 1.27,-1.27 ; 0.77,1.27 1.27,1.27 ; 1.27,-1.77 1.27,-1.27 ; 1.27,-0.77 1.27,-1.27 ; 1.27,0.77 1.27,1.27 ; 1.27,1.77 1.27,1.27 ; 1.77,-1.27 1.27,-1.27 ; 1.77,1.27 1.27,1.27 ; 3.31,-1.27 3.81,-1.27 ; 3.31,1.27 3.81,1.27 ; 3.81,-1.77 3.81,-1.27 ; 3.81,-0.77 3.81,-1.27 ; 3.81,0.77 3.81,1.27 ; 3.81,1.77 3.81,1.27 ; 4.31,-1.27 3.81,-1.27 ; 4.31,1.27 3.81,1.27
Mechanical 14:
  lines w0.1: -4.13,3.07 -4.13,-1.59 -3.49,-1.59 -3.49,3.07 ; -2.2,12.22 -2.2,4.87 2.2,4.87 2.2,12.22 ; -1.59,3.07 -1.59,-1.59 -0.95,-1.59 -0.95,3.07 ; -1.59,4.87 -1.59,10.37 -0.95,10.37 -0.95,4.87 ; 0.95,3.07 0.95,-1.59 1.59,-1.59 1.59,3.07 ; 0.95,4.87 0.95,10.37 1.59,10.37 1.59,4.87 ; 3.49,3.07 3.49,-1.59 4.13,-1.59 4.13,3.07 ; -8.89,3.07 8.89,3.07 8.89,12.22 -8.89,12.22 -8.89,3.07 ; -4.31,10.72 -3.31,10.72 -3.81,9.72 -4.31,10.72
3D body "AMPHENOL_T821108A1R100CEU.stp": height 8.95, standoff -3.15, extent -8.89,-1.59 8.89,12.22

## AMPHENOL_T821108A1S100CEU [mm] "8 Contacts - Straight .100\" x .100\" Low Profile Four-Wall Header"
height 9.15
pads (8):
  round 1.7 hole 1: 1(-3.81,-1.27) 2(-3.81,1.27) 3(-1.27,-1.27) 4(-1.27,1.27) 5(1.27,-1.27) 6(1.27,1.27) 7(3.81,-1.27) 8(3.81,1.27)
Top Overlay:
  circle w0.3: c-3.81,-4.973 r0.15
  lines w0.2: -4.31,-4.475 -3.81,-3.475 -3.31,-4.475 ; -2.2,-4.475 -2.2,-3.475 ; 2.2,-4.475 2.2,-3.475 ; -8.89,-4.475 -8.89,4.475 8.89,4.475 8.89,-4.475 -8.89,-4.475 ; -7.89,-3.475 -7.89,3.475 7.89,3.475 7.89,-3.475 -7.89,-3.475
Mechanical 8:
  lines w0.1: -4.31,-1.27 -3.81,-1.27 ; -4.31,1.27 -3.81,1.27 ; -3.81,-1.77 -3.81,-1.27 ; -3.81,-0.77 -3.81,-1.27 ; -3.81,0.77 -3.81,1.27 ; -3.81,1.77 -3.81,1.27 ; -3.31,-1.27 -3.81,-1.27 ; -3.31,1.27 -3.81,1.27 ; -1.77,-1.27 -1.27,-1.27 ; -1.77,1.27 -1.27,1.27 ; -1.27,-1.77 -1.27,-1.27 ; -1.27,-0.77 -1.27,-1.27 ; -1.27,0.77 -1.27,1.27 ; -1.27,1.77 -1.27,1.27 ; -0.77,-1.27 -1.27,-1.27 ; -0.77,1.27 -1.27,1.27 ; -0.5,0 0,0 ; 0,-0.5 0,0 ; 0,0.5 0,0 ; 0.5,0 0,0 ; 0.77,-1.27 1.27,-1.27 ; 0.77,1.27 1.27,1.27 ; 1.27,-1.77 1.27,-1.27 ; 1.27,-0.77 1.27,-1.27 ; 1.27,0.77 1.27,1.27 ; 1.27,1.77 1.27,1.27 ; 1.77,-1.27 1.27,-1.27 ; 1.77,1.27 1.27,1.27 ; 3.31,-1.27 3.81,-1.27 ; 3.31,1.27 3.81,1.27 ; 3.81,-1.77 3.81,-1.27 ; 3.81,-0.77 3.81,-1.27 ; 3.81,0.77 3.81,1.27 ; 3.81,1.77 3.81,1.27 ; 4.31,-1.27 3.81,-1.27 ; 4.31,1.27 3.81,1.27
Mechanical 14:
  lines w0.1: -4.31,-4.475 -3.81,-3.475 -3.31,-4.475 ; -2.2,-4.475 -2.2,-3.475 ; 2.2,-4.475 2.2,-3.475 ; -8.89,-4.475 -8.89,4.475 8.89,4.475 8.89,-4.475 -8.89,-4.475 ; -7.89,-3.475 -7.89,3.475 7.89,3.475 7.89,-3.475 -7.89,-3.475 ; -4.13,-1.59 -4.13,-0.95 -3.49,-0.95 -3.49,-1.59 -4.13,-1.59 ; -4.13,0.95 -4.13,1.59 -3.49,1.59 -3.49,0.95 -4.13,0.95 ; -1.59,-1.59 -1.59,-0.95 -0.95,-0.95 -0.95,-1.59 -1.59,-1.59 ; -1.59,0.95 -1.59,1.59 -0.95,1.59 -0.95,0.95 -1.59,0.95 ; 0.95,-1.59 0.95,-0.95 1.59,-0.95 1.59,-1.59 0.95,-1.59 ; 0.95,0.95 0.95,1.59 1.59,1.59 1.59,0.95 0.95,0.95 ; 3.49,-1.59 3.49,-0.95 4.13,-0.95 4.13,-1.59 3.49,-1.59 ; 3.49,0.95 3.49,1.59 4.13,1.59 4.13,0.95 3.49,0.95
3D body "AMPHENOL_T821108A1S100CEU.stp": height 9.15, standoff -3.3, extent -8.89,-4.475 8.89,4.475